# EAGLE library part TERA-RADIO-RFM22B (library tera-boards)
Tera Radio Board Adapter for HopeRF RFM22B Trägerboard
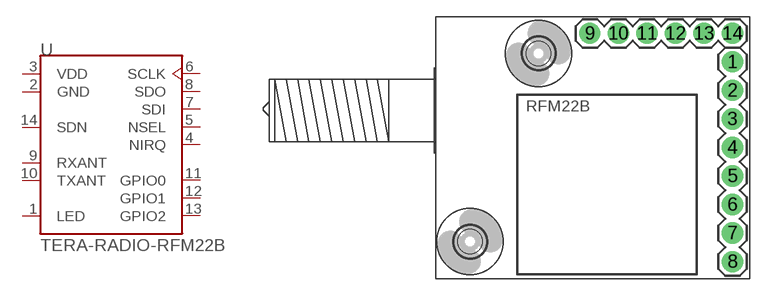
[diagram p3: symbol with the pads of TERA-RADIO-RFM22B; footprint TERA-RADIO-RFM22B]

Designator prefix -

## TERA-RADIO-RFM22B  [TERA-RADIO-RFM22B]
1  LED
2  GND
3  VDD
4  NIRQ
5  NSEL
6  SCLK
7  SDI
8  SDO
9  RXANT
10  TXANT
11  GPIO0
12  GPIO1
13  GPIO2
14  SDN

## Footprint TERA-RADIO-RFM22B (pad centres in mm)
drill 1 pad 1.88: 1 26.416,19.304; 2 26.416,16.764; 3 26.416,14.224; 4 26.416,11.684; 5 26.416,9.144; 6 26.416,6.604; 7 26.416,4.064; 8 26.416,1.524; 9 13.716,21.844; 10 16.256,21.844; 11 18.796,21.844; 12 21.336,21.844; 13 23.876,21.844; 14 26.416,21.844
hole 2.2 at 9.144,20.066
hole 2.2 at 3.048,3.302